# EAGLE library part SCA3300-D01-1 (library Sensor)
ACCELEROMETEREROMETER 1.5-6G SPI Manufacturer's datasheet <https://www.murata.com/~/media/webrenewal/products/sensor/pdf/datasheet/datasheet_sca3300-d01.ashx?la=en-us>
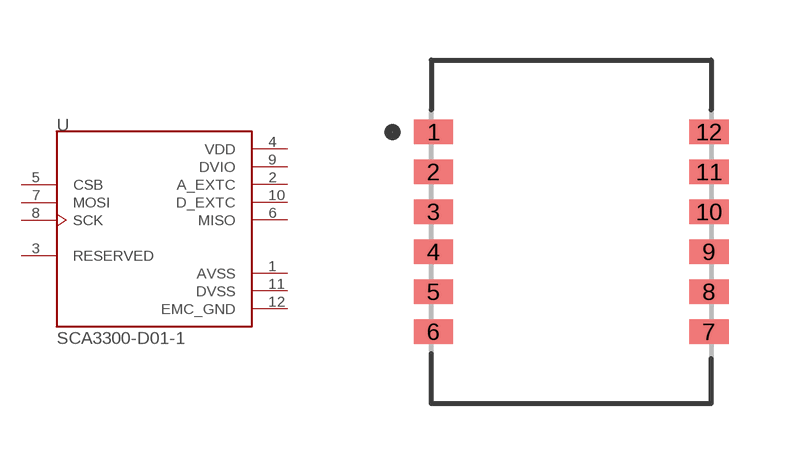
[diagram p28: symbol with the pads of SMD-12; footprint SMD-12]

Designator prefix U

## SCA3300-D01-1 (CREATED_BY: PCBLayout.com; DIGIKEY_PARTNO: 490-16144-2-ND; MANUFACTURER: Murata Electronics; MPN: SCA3300-D01-1; PACKAGE: SMD-12)  [SMD-12]
1  AVSS  pwr
2  A_EXTC  out
3  RESERVED  pas
4  VDD  pwr
5  CSB  in
6  MISO  out
7  MOSI  in
8  SCK  in
9  DVIO  pwr
10  D_EXTC  out
11  DVSS  pwr
12  EMC_GND  pwr

## Footprint SMD-12 (pad centres in mm)
smd 0.98 x 0.61: 1 -3.445,2.5; 2 -3.445,1.5; 3 -3.445,0.5; 4 -3.445,-0.5; 5 -3.445,-1.5; 6 -3.445,-2.5; 7 3.445,-2.5; 8 3.445,-1.5; 9 3.445,-0.5; 10 3.445,0.5; 11 3.445,1.5; 12 3.445,2.5